# Altium footprint library clock.PcbLib: 26 footprints (part 1 of 2)
Each footprint in its own frame and in the unit in brackets; x right, y up, seen from the top. Pads: shape width x height; smd on the part's side, far side on the other; paste and mask are expansions set on the pad; w line width, h text height; cw(c..) or ccw(c..) is an arc to the next point about the centre after c.
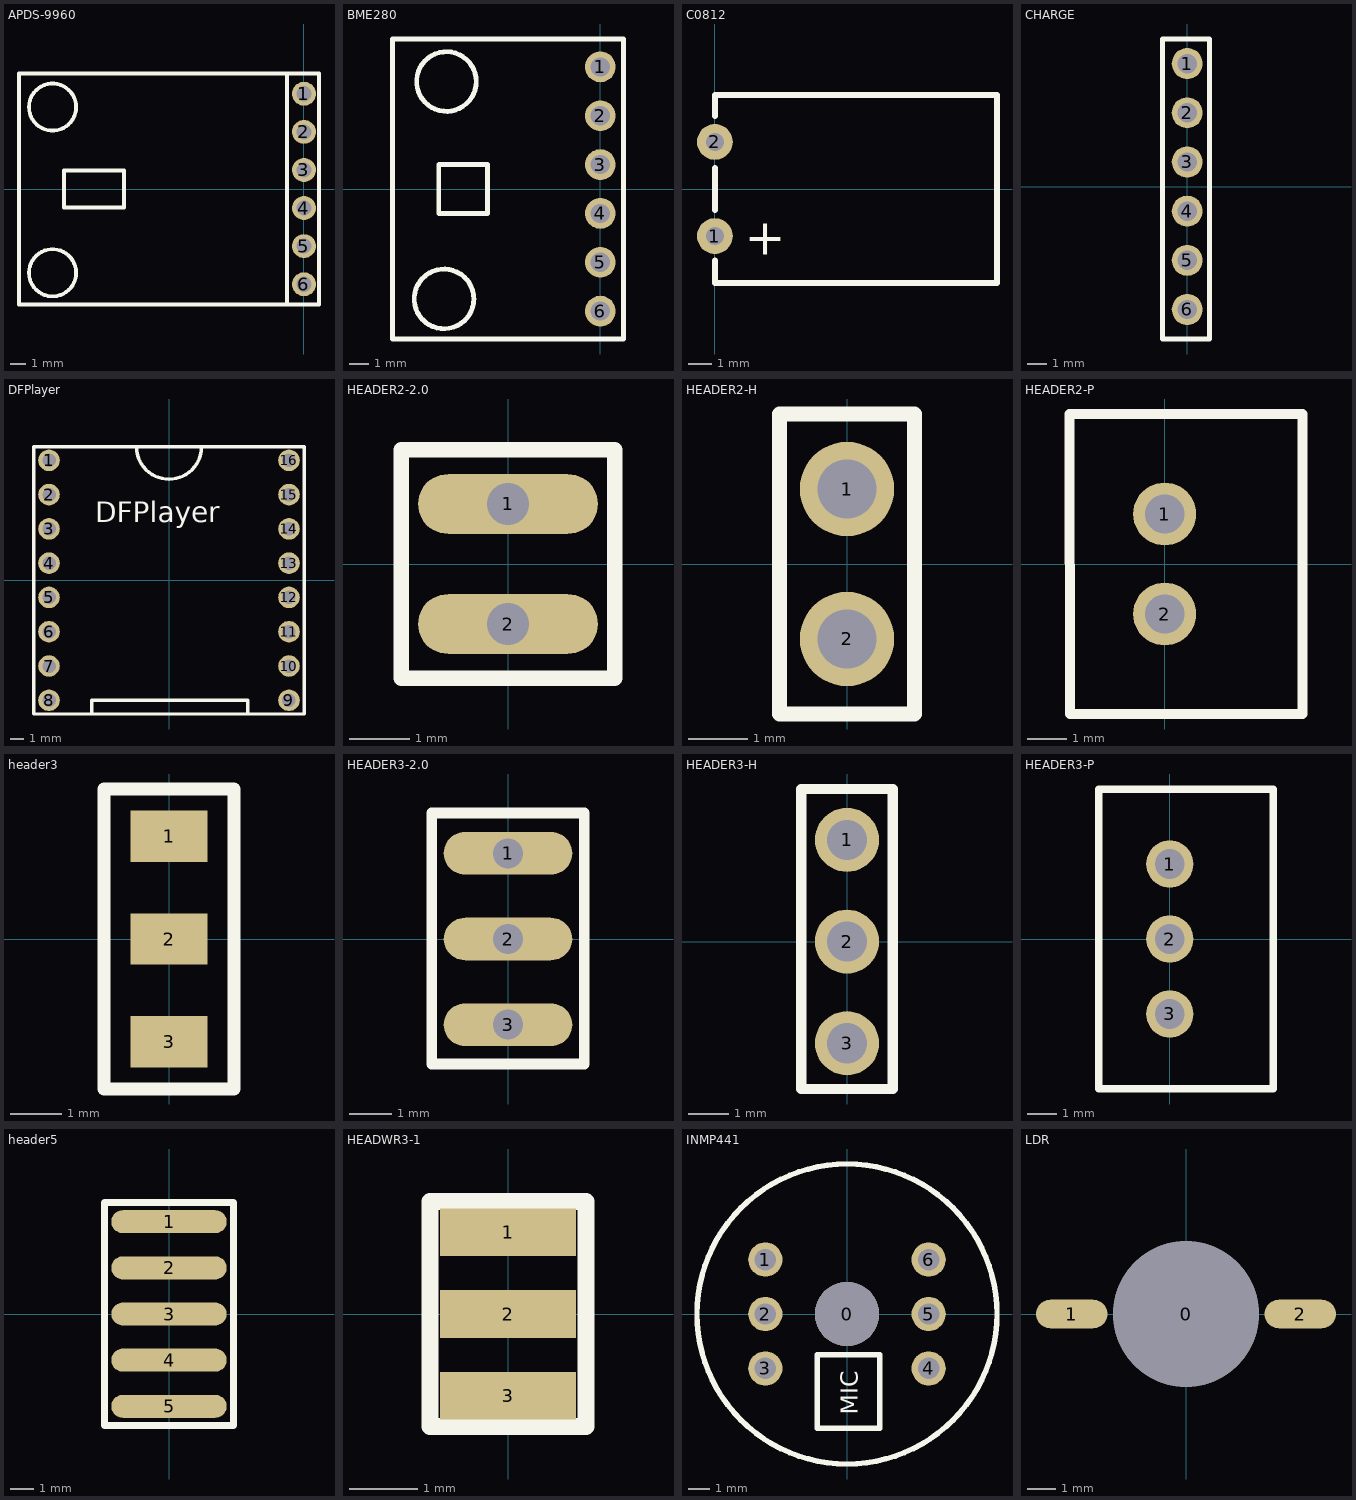
[diagram p0: the footprints below, top view; thin cyan lines are the x and y axes]

## APDS-9960 [mm]
pads (6):
  round 1.6 hole 1: 1(0,6.35) 2(0,3.81) 3(0,1.27) 4(0,-1.27) 5(0,-3.81) 6(0,-6.35)
Top Overlay:
  circle w0.254: c-16.764,-5.588 r1.571
  circle w0.254: c-16.764,5.461 r1.571
  lines w0.254: -1.143,-7.62 -1.143,7.62 ; 1,-7.7 -19,-7.7 -19,7.7 1,7.7 1,-7.62 ; -16,-1.225 -12,-1.225 -12,1.225 -16,1.225 -16,-1.225

## BME280 [mm]
pads (6):
  round 1.6 hole 1: 1(0,6.35) 2(0,3.81) 3(0,1.27) 4(0,-1.27) 5(0,-3.81) 6(0,-6.35)
Top Overlay:
  circle w0.254: c-8.128,-5.715 r1.55
  circle w0.254: c-8.001,5.588 r1.55
  lines w0.254: 1.143,-7.8 -10.8,-7.8 -10.8,7.8 1.143,7.8 ; 1.2,-7.8 1.2,7.8 ; -8.4,-1.27 -8.4,1.27 -5.86,1.27 -5.86,-1.27 -8.4,-1.27

## C0812 [mil] "C0812"
pads (2):
  round 60 hole 30: 1(0,-78.74) 2(0,78.74)
Top Overlay:
  lines w10: 0,-120 0,-157.48 472.44,-157.48 472.44,157.48 0,157.48 0,122.52 ; 0,-35 0,35
  text "+" at 50,-110 h60

## CHARGE [mm]
pads (6):
  round 1.6 hole 1: 1(0,6.35) 2(0,3.81) 3(0,1.27) 4(0,-1.27) 5(0,-3.81) 6(0,-6.35)
Top Overlay:
  lines w0.254: -1.27,-7.874 -1.27,7.62 1.143,7.62 1.143,-7.366 1.143,-7.874 -1.27,-7.874

## DFPlayer [mm]
pads (16):
  round 1.6 hole 1: 1(-8.89,8.89) 2(-8.89,6.35) 3(-8.89,3.81) 4(-8.89,1.27) 5(-8.89,-1.27) 6(-8.89,-3.81) 7(-8.89,-6.35) 8(-8.89,-8.89) 9(8.89,-8.89) 10(8.89,-6.35) 11(8.89,-3.81) 12(8.89,-1.27) 13(8.89,1.27) 14(8.89,3.81) 15(8.89,6.35) 16(8.89,8.89)
Top Overlay:
  lines w0.254: -5.715,-9.906 -5.715,-8.89 5.842,-8.89 5.842,-9.906 ; -2.416,9.906 ccw(c0,9.906) 2.416,9.906 ; -10.033,-9.906 10.033,-9.906 10.033,9.906 9.779,9.906 -9.906,9.906 -10.033,9.906 -10.033,-9.906
  text "DFPlayer" at -5.461,4.318 h1.52

## HEADER2-2.0 [mm]
pads (2):
  oval 3x1 hole 0.7: 1(0,1) 2(0,-1)
Top Overlay:
  lines w0.254: -1.778,-1.905 1.778,-1.905 1.778,1.905 -1.778,1.905 -1.778,-1.905

## HEADER2-H [mm]
pads (2):
  round 1.6 hole 1: 1(0,1.27) 2(0,-1.27)
Top Overlay:
  lines w0.254: -1.143,-2.54 1.143,-2.54 1.143,2.54 -1.143,2.54 -1.143,-2.54

## HEADER2-P [mm]
pads (2):
  round 1.6 hole 1: 1(0,1.27) 2(0,-1.27)
Top Overlay:
  lines w0.254: -2.416,3.81 -2.4,-3.81 3.5,-3.81 3.5,3.81 -2.4,3.81

## header3 [mm]
pads (3):
  rect 1.5x1 smd: 1(0,2) 2(0,0) 3(0,-2)
Top Overlay:
  lines w0.254: -1.27,-2.921 -1.27,2.921 1.27,2.921 1.27,-2.794 1.27,-2.921 -1.27,-2.921

## HEADER3-2.0 [mm]
pads (3):
  oval 3x1 hole 0.7: 1(0,2) 2(0,0) 3(0,-2)
Top Overlay:
  lines w0.254: -1.778,-2.921 -1.778,2.937 1.778,2.937 1.778,-2.921 -1.778,-2.921

## HEADER3-H [mm]
pads (3):
  round 1.6 hole 1: 1(0,2.54) 2(0,0) 3(0,-2.54)
Top Overlay:
  lines w0.254: -1.143,-3.683 1.143,-3.683 1.143,3.81 -1.143,3.81 -1.143,-3.683

## HEADER3-P [mm]
pads (3):
  round 1.6 hole 1: 1(0,2.54) 2(0,0) 3(0,-2.54)
Top Overlay:
  lines w0.254: -2.4,-5.08 -2.4,5.08 3.5,5.08 3.5,-5.08 -2.4,-5.08

## header5 [mm]
height 2.5
pads (5):
  oval 5x1 smd: 1(0,4) 2(0,2) 3(0,0) 4(0,-2) 5(0,-4)
Top Overlay:
  lines w0.3: -2.794,-4.826 2.794,-4.826 2.794,4.826 -2.794,4.826 -2.794,-4.826

## HEADWR3-1 [mm]
pads (3):
  rect 2x0.7 smd: 1(0,1.2) 2(0,0) 3(0,-1.2)
Top Overlay:
  lines w0.254: -1.143,-1.651 1.143,-1.651 1.143,1.651 -1.143,1.651 -1.143,-1.651

## INMP441 [mm]
pads (7):
  round 3 hole 3: 0(0,0)
  round 1.6 hole 1: 1(-3.81,2.54) 2(-3.81,0) 3(-3.81,-2.54) 4(3.81,-2.54) 5(3.81,0) 6(3.81,2.54)
Top Overlay:
  circle w0.254: c0,0 r7
  lines w0.254: -1.397,-5.334 -1.397,-1.905 1.524,-1.905 1.524,-5.334 -1.397,-5.334
  text "MIC" at 0.508,-4.699 h0.8

## LDR [mm]
pads (3):
  round 5.1 hole 5.1: 0(0,0)
  oval 2.5x1 smd: 1(-4,0) 2(4,0)